# Altium footprint library Alt.PcbLib: 21 footprints (part 1 of 2)
Each footprint in its own frame and in the unit in brackets; x right, y up, seen from the top. Pads: shape width x height; smd on the part's side, far side on the other; paste and mask are expansions set on the pad; w line width, h text height; cw(c..) or ccw(c..) is an arc to the next point about the centre after c.
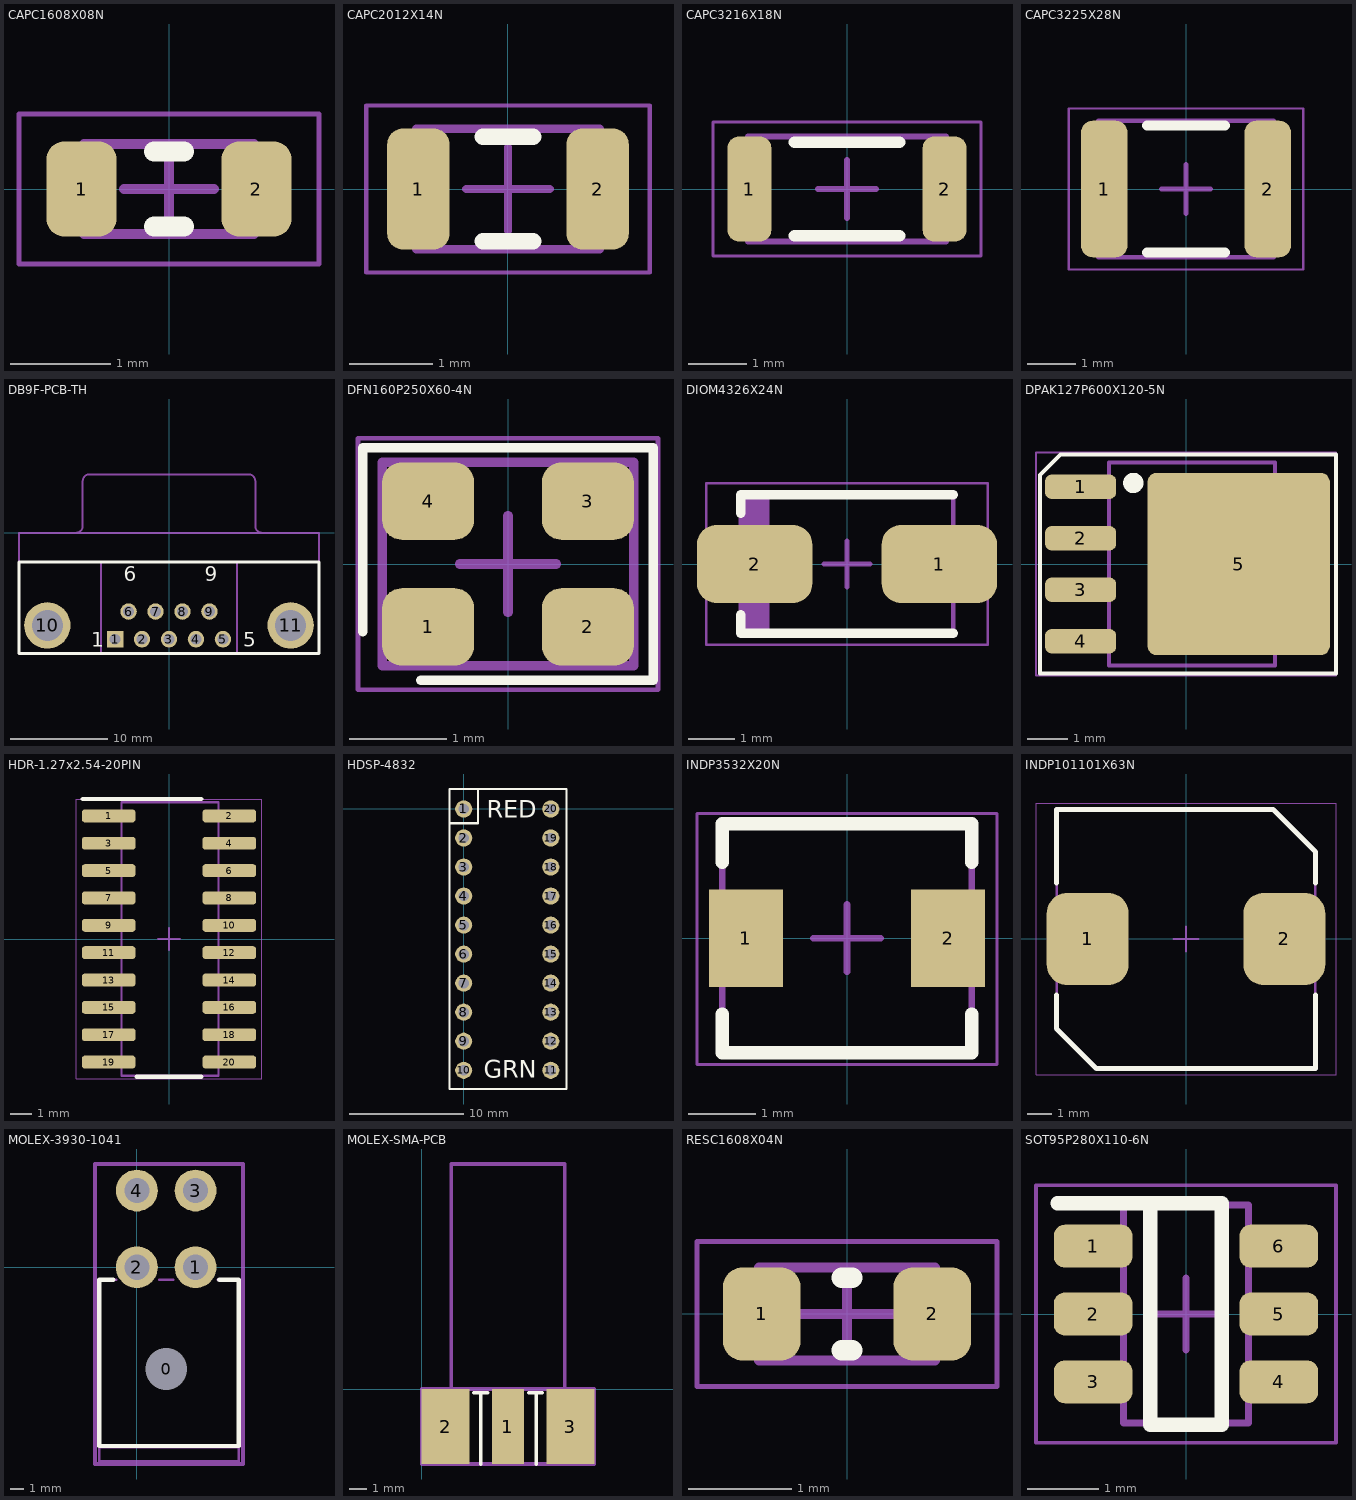
[diagram p0: the footprints below, top view; thin cyan lines are the x and y axes]

## CAPC1608X08N [mm] "Chip Capacitor, 2-Leads, Body 1.60x0.80mm, IPC Medium Density, CGA3"
height 0.8
pads (2):
  rrect50% 0.7x0.95 smd mask+0.051: 1(-0.875,0) 2(0.875,0)
Top Overlay:
  lines w0.2: -0.15,-0.375 0.15,-0.375 ; -0.15,0.375 0.15,0.375
Assembly Top:
  lines w0.1: -0.85,-0.45 -0.85,0.45 0.85,0.45 0.85,-0.45 -0.85,-0.45
Courtyard Top:
  lines w0.05: -1.5,-0.75 -1.5,0.75 1.5,0.75 1.5,-0.75 -1.5,-0.75
  lines w0.1: -0.45,0 0.45,0 ; 0,-0.45 0,0.45
3D body "CAPC1608X08N.step": height 0.8, standoff 0, extent -0.85,-0.45 0.85,0.45

## CAPC2012X14N [mm] "Chip Capacitor, 2-Leads, Body 2.00x1.25mm, IPC Medium Density, CGA4"
height 1.45
pads (2):
  rrect50% 0.75x1.45 smd mask+0.051: 1(-1.075,0) 2(1.075,0)
Top Overlay:
  lines w0.2: -0.3,-0.625 0.3,-0.625 ; -0.3,0.625 0.3,0.625
Assembly Top:
  lines w0.1: -1.1,-0.725 1.1,-0.725 1.1,0.725 -1.1,0.725 -1.1,-0.725
Courtyard Top:
  lines w0.05: -1.7,-1 1.7,-1 1.7,1 -1.7,1 -1.7,-1
  lines w0.1: -0.5,0 0.5,0 ; 0,-0.5 0,0.5
3D body "CAPC2012X14N.step": height 1.45, standoff 0, extent -1.1,-0.725 1.1,0.725

## CAPC3216X18N [mm] "Chip Capacitor, 2-Leads, Body 3.20x1.60mm, IPC Medium Density, CGA5"
height 1.8
pads (2):
  rrect50% 0.75x1.8 smd mask+0.051: 1(-1.675,0) 2(1.675,0)
Top Overlay:
  lines w0.2: -0.9,-0.8 0.9,-0.8 ; -0.9,0.8 0.9,0.8
Assembly Top:
  lines w0.1: -1.7,-0.9 -1.7,0.9 1.7,0.9 1.7,-0.9 -1.7,-0.9
Courtyard Top:
  lines w0.05: -2.3,-1.15 -2.3,1.15 2.3,1.15 2.3,-1.15 -2.3,-1.15
  lines w0.1: -0.5,0 0.5,0 ; 0,-0.5 0,0.5
3D body "CAPC3216X18N.step": height 1.8, standoff 0, extent -1.7,-0.9 1.7,0.9

## CAPC3225X28N [mm] "Chip Capacitor, 2-Leads, Body 3.20x2.50mm, IPC Medium Density, CGA6"
height 2.8
pads (2):
  rrect50% 0.95x2.8 smd mask+0.051: 1(-1.675,0) 2(1.675,0)
Top Overlay:
  lines w0.2: -0.8,-1.3 0.8,-1.3 ; -0.8,1.3 0.8,1.3
Assembly Top:
  lines w0.1: -1.8,-1.4 -1.8,1.4 1.8,1.4 1.8,-1.4 -1.8,-1.4
Courtyard Top:
  lines w0.05: -2.4,-1.65 -2.4,1.65 2.4,1.65 2.4,-1.65 -2.4,-1.65
  lines w0.1: -0.5,0 0.5,0 ; 0,-0.5 0,0.5
3D body "CAPC3225X28N.step": height 2.8, standoff 0, extent -1.8,-1.4 1.8,1.4

## DB9F-PCB-TH [mm] "Connector; D Subminiature; 9 Position; Right Angle; Pitch 1.385 mm"
height 12.75
pads (11):
  rect 1.69x1.69 hole 1.09: 1(-5.54,-10.92)
  round 1.69 hole 1.09: 2(-2.77,-10.92) 3(0,-10.92) 4(2.77,-10.92) 5(5.54,-10.92) 6(-4.155,-8.08) 7(-1.385,-8.08) 8(1.385,-8.08) 9(4.155,-8.08)
  round 4.76 hole 3.18: 10(-12.495,-9.5) 11(12.495,-9.5)
Top Overlay:
  lines w0.3: -15.4,-12.4 -15.4,-3 15.4,-3 15.4,-12.4 -15.4,-12.4
  text "1" at -8,-11.7 h1.5
  text "5" at 7.6,-11.7 h1.5
  text "9" at 3.655,-4.975 h1.5
  text "6" at -4.655,-4.975 h1.5
Assembly Top:
  lines w0.2: -15.4,-3 15.4,-3 ; -9.56,0.005 ccw(c-9.56,0.7) -8.865,0.7 -8.865,5.3 ; -8.86,5.305 cw(c-8.165,5.305) -8.165,6 8.165,6 cw(c8.165,5.305) 8.86,5.305 ; -7,-12.4 -7,-3 ; 7,-12.4 7,-3 ; 8.865,5.3 8.865,0.7 ccw(c9.56,0.7) 9.56,0.005 ; -15.4,-12.4 -15.4,0 15.4,0 15.4,-12.4 -15.4,-12.4
3D body "DB9 - 203-09SCKKBE.STEP": height 12.55, standoff -4.45, extent -15.405,-12.3 15.405,6.25

## DFN160P250X60-4N [mm] "DFN, 4-Leads, Body 2.00x2.50mm, Pitch 1.60mm, IPC Medium Density"
height 0.6
pads (4):
  rrect50% 0.95x0.8 smd mask+0.051: 1(-0.825,-0.65) 2(0.825,-0.65) 3(0.825,0.65) 4(-0.825,0.65)
Top Overlay:
  lines w0.1: -1.5,-0.7 -1.5,1.2 1.5,1.2 1.5,-1.2 -0.9,-1.2
Assembly Top:
  lines w0.1: -1.3,-1.05 -1.3,1.05 1.3,1.05 1.3,-1.05 -1.3,-1.05
Courtyard Top:
  lines w0.05: -1.55,-1.3 -1.55,1.3 1.55,1.3 1.55,-1.3 -1.55,-1.3
  lines w0.1: -0.5,0 0.5,0 ; 0,-0.5 0,0.5
3D body "DFN160P250X60-4N.step": height 0.6, standoff 0, extent -1.3,-1.05 1.35,1.05

## DIOM4326X24N [mm] "Molded Diode, 2-Leads, Body 4.30x2.61mm, IPC Medium Density"
height 2.4
pads (2):
  rrect50% 2.5x1.7 smd mask+0.051: 1(2,0) 2(-2,0)
Top Overlay:
  lines w0.2: -2.3,-1.1 -2.3,-1.5 2.3,-1.5 ; -2.3,1.1 -2.3,1.5 2.3,1.5
Assembly Top:
  rectangle: -2.3,-1.46 -1.681,1.46
  lines w0.1: -2.3,-1.46 2.3,-1.46 2.3,1.46 -2.3,1.46 -2.3,-1.46
Courtyard Top:
  lines w0.05: -3.05,-1.75 3.05,-1.75 3.05,1.75 -3.05,1.75 -3.05,-1.75
  lines w0.1: -0.5,0 0.5,0 ; 0,-0.5 0,0.5
3D body "DIOM4326X24N.step": height 2.4, standoff 0, extent -2.52,-1.46 2.52,1.46

## DPAK127P600X120-5N [mm] "TO, 5-Pads, Body 5.15x5.86mm (max), IPC Medium Density"
height 1.2
pads (5):
  rrect50% 1.75x0.6 smd mask+0.051: 1(-2.6,1.905) 2(-2.6,0.635) 3(-2.6,-0.635) 4(-2.6,-1.905)
  rrect10% 4.5x4.5 smd mask+0.051: 5(1.3,0)
Top Overlay:
  circle w0.25: c-1.3,2 r0.125
  lines w0.1: -3.6,-2.7 3.7,-2.7 3.7,2.7 -3.1,2.7 -3.6,2.2 -3.6,-2.7
Assembly Top:
  lines w0.1: -1.9,-2.5 2.2,-2.5 2.2,2.5 -1.9,2.5 -1.9,-2.5
Courtyard Top:
  lines w0.05: -3.7,-2.75 3.7,-2.75 3.7,2.75 -3.7,2.75 -3.7,-2.75
  lines w0.1: -0.5,0 0.5,0 ; 0,-0.5 0,0.5
3D body "DPAK127P600X120-5N.step": height 1.2, standoff 0, extent -2.8,-2.5 3.2,2.5

## HDR-1.27x2.54-20PIN [mm] "SMT Header, 1x27x2.54mm, 2 row, 20 pin"
height 2.65
pads (20):
  rrect50% 2.5x0.6 smd mask+0.051: 1(-2.8,5.715) 2(2.8,5.715) 3(-2.8,4.445) 4(2.8,4.445) 5(-2.8,3.175) 6(2.8,3.175) 7(-2.8,1.905) 8(2.8,1.905) 9(-2.8,0.635) 10(2.8,0.635) 11(-2.8,-0.635) 12(2.8,-0.635) 13(-2.8,-1.905) 14(2.8,-1.905) 15(-2.8,-3.175) 16(2.8,-3.175) 17(-2.8,-4.445) 18(2.8,-4.445) 19(-2.8,-5.715) 20(2.8,-5.715)
Top Overlay:
  lines w0.2: -4,6.5 1.5,6.5 ; -1.5,-6.4 1.5,-6.4
Assembly Top:
  lines w0.1: -2.2,-6.35 -2.2,6.35 2.3,6.35 2.3,-6.35 -2.2,-6.35
Courtyard Top:
  lines w0.05: -4.3,-6.5 -4.3,6.5 4.3,6.5 4.3,-6.5 -4.3,-6.5
  lines w0.1: -0.5,0 0.5,0 ; 0,-0.5 0,0.5
3D body "FTR-110-51-S-D-06-TR.stp": height 8.63, standoff -0.01, extent -3.759,-6.35 3.759,6.35
3D body: height 0.25, standoff 0, extent 0,0 0,0

## HDSP-4832 [mm] "10-Element Bar Graph Array"
pads (20):
  round 1.5 hole 0.9: 1(0,0) 2(0,-2.54) 3(0,-5.08) 4(0,-7.62) 5(0,-10.16) 6(0,-12.7) 7(0,-15.24) 8(0,-17.78) 9(0,-20.32) 10(0,-22.86) 11(7.62,-22.86) 12(7.62,-20.32) 13(7.62,-17.78) 14(7.62,-15.24) 15(7.62,-12.7) 16(7.62,-10.16) 17(7.62,-7.62) 18(7.62,-5.08) 19(7.62,-2.54) 20(7.62,0)
Top Overlay:
  lines w0.2: -1.25,-1.25 1.25,-1.25 1.25,1.75 ; -1.25,-24.5 9,-24.5 9,1.75 -1.25,1.75 -1.25,-24.5
  text "RED" at 2,-0.75 h1.52
  text "GRN" at 1.75,-23.5 h1.52
3D body "LED Bar Graph Coloured HDSP-4832.step": height 6.1, standoff -2, extent -1.27,-24.51 8.89,1.65

## INDP3532X20N [mm] "Precision Wire Wound Inductor, 2-Leads, Body 3.50x3.20mm, IPC Medium Density"
height 2
pads (2):
  rect 1.1x1.45 smd: 1(-1.5,0) 2(1.5,0)
Top Overlay:
  lines w0.2: -1.85,-1.125 -1.85,-1.7 1.85,-1.7 1.85,-1.125 ; -1.85,1.125 -1.85,1.7 1.85,1.7 1.85,1.125
Assembly Top:
  lines w0.1: -1.85,-1.7 1.85,-1.7 1.85,1.7 -1.85,1.7 -1.85,-1.7
Courtyard Top:
  lines w0.05: -2.225,-1.875 2.225,-1.875 2.225,1.85 -2.225,1.85 -2.225,-1.875
  lines w0.1: -0.5,0 0.5,0 ; 0,-0.5 0,0.5
3D body "INDP3532X20N.step": height 2.1, standoff 0, extent -1.85,-1.6 1.85,1.6

## INDP101101X63N [mm] "Precision Wire Wound Inductor, 2-Leads, Body 10.10x10.10mm, IPC Medium Density"
height 6.3
pads (2):
  rrect50% 3.3x3.7 smd mask+0.051: 1(-3.95,0) 2(3.95,0)
Top Overlay:
  lines w0.2: -5.2,-2.25 -5.2,-3.6 -3.6,-5.2 5.2,-5.2 5.2,-2.25 ; -5.2,2.25 -5.2,5.2 3.5,5.2 5.2,3.5 5.2,2.25
Assembly Top:
  lines w0.1: -5.2,-3.6 -3.6,-5.2 5.2,-5.2 5.2,3.5 3.5,5.2 -5.2,5.2 -5.2,-3.6
Courtyard Top:
  lines w0.05: -6.025,-5.45 -6.025,5.45 6.025,5.45 6.025,-5.45 -6.025,-5.45
  lines w0.1: -0.5,0 0.5,0 ; 0,-0.5 0,0.5
3D body "clf10060ni-d.step": height 6.3, standoff 0, extent -5.2,-5.1 5.2,5.2

## MOLEX-3930-1041 [mm] "Mini-Fit Jr. Header, Dual Row, Right-Angle"
pads (5):
  round 1.524 hole 3 unplated: 0(2.1,-7.3)
  round 3 hole 1.8: 1(4.2,0) 2(0,0) 3(4.2,5.5) 4(0,5.5)
Top Overlay:
  lines w0.3: -1.7,-0.9 -2.7,-0.9 -2.7,-12.8 7.3,-12.8 7.3,-0.9 5.9,-0.9
Assembly Top:
  lines w0.2: -2.7,-12.9 7.3,-12.9 ; -1.5,-0.9 -2.7,-0.9 -2.7,-13.9 7.3,-13.9 7.3,-0.9 5.8,-0.9 ; 1.6,-0.9 2.6,-0.9
Courtyard Top:
  lines w0.3: -3,-14.1 -3,7.4 7.6,7.4 7.6,-14.1 -3,-14.1
3D body "039301041.stp": height 11.4, standoff -3.6, extent -2.7,-13.899 7.3,6.036

## MOLEX-SMA-PCB [mm] "50 Ohms, SMA Jack, Edge Mount"
pads (3):
  rect 1.78x4.19 smd mask+0.051: 1(4.825,-2.1)
  rect 2.67x4.19 smd mask+0.051: 2(1.325,-2.1) 3(8.325,-2.1)
Top Overlay:
  lines w0.2: 2.9,-0.2 3.7,-0.2 ; 3.3,-4.2 3.3,-0.2 ; 6,-0.2 6.75,-0.2 ; 6.4,-4.2 6.4,-0.2
Courtyard Top:
  lines w0.2: 1.65,0 1.65,12.6 8,12.6 8,0 ; 0,-4.2 0,0 9.65,0 9.65,-4.2 0,-4.2
  text "EDGE" at 2.1,0.3 h1.52
3D body "732512120.stp": height 3.8, standoff -2.55, extent 1.65,-3.656 8,12.6

## RESC1608X04N [mm] "Chip Resistor, 2-Leads, Body 1.60x0.80mm, IPC Medium Density"
height 0.45
pads (2):
  rrect50% 0.75x0.9 smd mask+0.051: 1(-0.825,0) 2(0.825,0)
Top Overlay:
  lines w0.2: -0.05,-0.35 0.05,-0.35 ; -0.05,0.35 0.05,0.35
Assembly Top:
  lines w0.1: -0.85,-0.45 0.85,-0.45 0.85,0.45 -0.85,0.45 -0.85,-0.45
Courtyard Top:
  lines w0.05: -1.45,-0.7 1.45,-0.7 1.45,0.7 -1.45,0.7 -1.45,-0.7
  lines w0.1: -0.45,0 0.45,0 ; 0,-0.45 0,0.45
3D body "RESC1608X04N.step": height 0.45, standoff 0, extent -0.85,-0.45 0.85,0.45

## SOT95P280X110-6N [mm] "SOT23, 6-Leads, Body 2.90x2.80mm, Pitch 0.95mm, IPC Medium Density"
height 1.1
pads (6):
  rrect50% 1.1x0.6 smd mask+0.051: 1(-1.3,0.95) 2(-1.3,0) 3(-1.3,-0.95) 4(1.3,-0.95) 5(1.3,0) 6(1.3,0.95)
Top Overlay:
  lines w0.2: -1.8,1.55 -0.5,1.55 ; -0.5,1.55 -0.5,-1.55 0.5,-1.55 0.5,1.55 -0.5,1.55
Assembly Top:
  lines w0.1: -0.875,-1.525 -0.875,1.525 0.875,1.525 0.875,-1.525 -0.875,-1.525
Courtyard Top:
  lines w0.05: -2.1,-1.8 -2.1,1.8 2.1,1.8 2.1,-1.8 -2.1,-1.8
  lines w0.1: -0.5,0 0.5,0 ; 0,-0.5 0,0.5
3D body "SOT95P280X110-6N.step": height 1.1, standoff 0, extent -1.5,-1.525 1.5,1.525